# Altium schematic symbol library WCAP-FTXX.SchLib: 109 symbols (part 2 of 3)
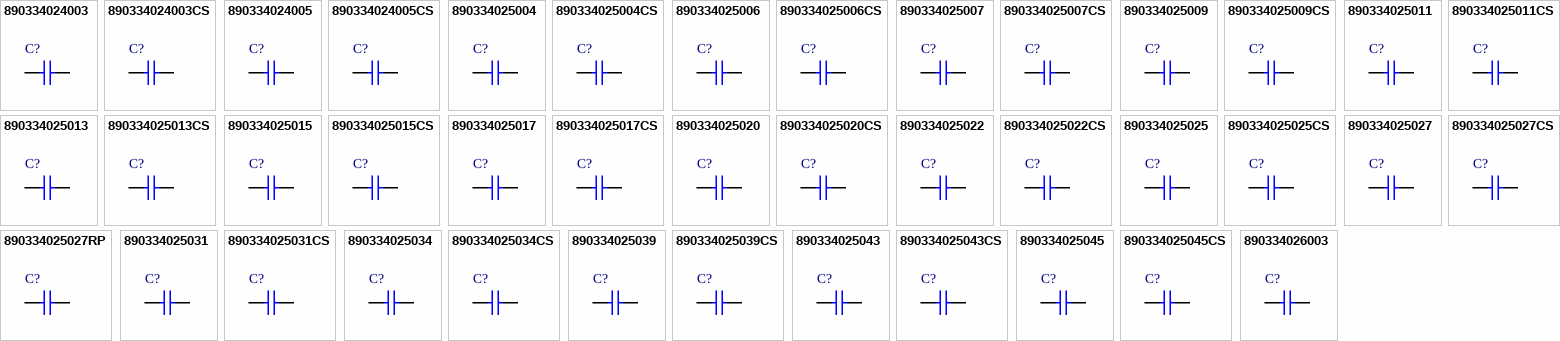
[diagram p3: symbols 890334024003 to 890334026003]

## 890334025011CS
designator C?, comment 56nF  (value not drawn)
WCAP-FTXX Film Capacitor, THT, 18mm x 5mm x 11mm, 56nF, 310V; Manufacturer Part Number: 890334025011CS; Manufacturer: Wurth Elektronik; Dissipation Factor @1kHz: 0.1%; Insulation Resistance: 30GΩ; Rate of Voltage Rise: 250V/µs; Safety Class: X2; Category: Film Capacitors; Match Code: WCAP-FTXX; ComponentLink1Description: Website Link; ComponentLink1URL: https://www.we-online.com/redexpert/article/890334025011CS?ad; ComponentLink2Description: Datasheet Link; ComponentLink2URL: https://www.we-online.com/redexpert/spec/890334025011CS?ad; Mount: Through Hole; Min Operating Temperature: -40°C; Max Operating Temperature: 105°C; Packaging: Bulk; Length: 18mm; Width: 5mm; Height: 11mm; Application: Across the mains; Capacitance: 56nF; Lead Pitch: 15mm; Rated Voltage (AC): 310V
footprint WCAP-FTXX_L18W5H11
simulation model 890334025011CS_56nF
pins: 1, 2

## 890334025013
designator C?, comment 68nF  (value not drawn)
WCAP-FTXX Film Capacitor, THT, 18mm x 6mm x 12mm, 68nF, 310V; Manufacturer Part Number: 890334025013; Manufacturer: Wurth Elektronik; Dissipation Factor @1kHz: 0.1%; Insulation Resistance: 30GΩ; Rate of Voltage Rise: 270V/µs; Safety Class: X2; Category: Film Capacitors; Match Code: WCAP-FTXX; ComponentLink1Description: Website Link; ComponentLink1URL: https://www.we-online.com/redexpert/article/890334025013?ad; ComponentLink2Description: Datasheet Link; ComponentLink2URL: https://www.we-online.com/redexpert/spec/890334025013?ad; Mount: Through Hole; Min Operating Temperature: -40°C; Max Operating Temperature: 105°C; Packaging: Bulk; Length: 18mm; Width: 6mm; Height: 12mm; Application: Across the mains; Capacitance: 68nF; Lead Pitch: 15mm; Rated Voltage (AC): 310V
footprint WCAP-FTXX_L18W6H12
simulation model 890334025013_68nF
pins: 1, 2

## 890334025013CS
designator C?, comment 68nF  (value not drawn)
WCAP-FTXX Film Capacitor, THT, 18mm x 6mm x 12mm, 68nF, 310V; Manufacturer Part Number: 890334025013CS; Manufacturer: Wurth Elektronik; Dissipation Factor @1kHz: 0.1%; Insulation Resistance: 30GΩ; Rate of Voltage Rise: 270V/µs; Safety Class: X2; Category: Film Capacitors; Match Code: WCAP-FTXX; ComponentLink1Description: Website Link; ComponentLink1URL: https://www.we-online.com/redexpert/article/890334025013CS?ad; ComponentLink2Description: Datasheet Link; ComponentLink2URL: https://www.we-online.com/redexpert/spec/890334025013CS?ad; Mount: Through Hole; Min Operating Temperature: -40°C; Max Operating Temperature: 105°C; Packaging: Bulk; Length: 18mm; Width: 6mm; Height: 12mm; Application: Across the mains; Capacitance: 68nF; Lead Pitch: 15mm; Rated Voltage (AC): 310V
footprint WCAP-FTXX_L18W6H12
simulation model 890334025013CS_68nF
pins: 1, 2

## 890334025015
designator C?, comment 82nF  (value not drawn)
WCAP-FTXX Film Capacitor, THT, 18mm x 6mm x 12mm, 82nF, 310V; Manufacturer Part Number: 890334025015; Manufacturer: Wurth Elektronik; Dissipation Factor @1kHz: 0.1%; Insulation Resistance: 30GΩ; Rate of Voltage Rise: 290V/µs; Safety Class: X2; Category: Film Capacitors; Match Code: WCAP-FTXX; ComponentLink1Description: Website Link; ComponentLink1URL: https://www.we-online.com/redexpert/article/890334025015?ad; ComponentLink2Description: Datasheet Link; ComponentLink2URL: https://www.we-online.com/redexpert/spec/890334025015?ad; Mount: Through Hole; Min Operating Temperature: -40°C; Max Operating Temperature: 105°C; Packaging: Bulk; Length: 18mm; Width: 6mm; Height: 12mm; Application: Across the mains; Capacitance: 82nF; Lead Pitch: 15mm; Rated Voltage (AC): 310V
footprint WCAP-FTXX_L18W6H12
simulation model 890334025015_82nF
pins: 1, 2

## 890334025015CS
designator C?, comment 82nF  (value not drawn)
WCAP-FTXX Film Capacitor, THT, 18mm x 6mm x 12mm, 82nF, 310V; Manufacturer Part Number: 890334025015CS; Manufacturer: Wurth Elektronik; Dissipation Factor @1kHz: 0.1%; Insulation Resistance: 30GΩ; Rate of Voltage Rise: 290V/µs; Safety Class: X2; Category: Film Capacitors; Match Code: WCAP-FTXX; ComponentLink1Description: Website Link; ComponentLink1URL: https://www.we-online.com/redexpert/article/890334025015CS?ad; ComponentLink2Description: Datasheet Link; ComponentLink2URL: https://www.we-online.com/redexpert/spec/890334025015CS?ad; Mount: Through Hole; Min Operating Temperature: -40°C; Max Operating Temperature: 105°C; Packaging: Bulk; Length: 18mm; Width: 6mm; Height: 12mm; Application: Across the mains; Capacitance: 82nF; Lead Pitch: 15mm; Rated Voltage (AC): 310V
footprint WCAP-FTXX_L18W6H12
simulation model 890334025015CS_82nF
pins: 1, 2

## 890334025017
designator C?, comment 100nF  (value not drawn)
WCAP-FTXX Film Capacitor, THT, 18mm x 6mm x 12mm, 100nF, 310V; Manufacturer Part Number: 890334025017; Manufacturer: Wurth Elektronik; Dissipation Factor @1kHz: 0.1%; Insulation Resistance: 30GΩ; Rate of Voltage Rise: 300V/µs; Safety Class: X2; Category: Film Capacitors; Match Code: WCAP-FTXX; ComponentLink1Description: Website Link; ComponentLink1URL: https://www.we-online.com/redexpert/article/890334025017?ad; ComponentLink2Description: Datasheet Link; ComponentLink2URL: https://www.we-online.com/redexpert/spec/890334025017?ad; Mount: Through Hole; Min Operating Temperature: -40°C; Max Operating Temperature: 105°C; Packaging: Bulk; Length: 18mm; Width: 6mm; Height: 12mm; Application: Across the mains; Capacitance: 100nF; Lead Pitch: 15mm; Rated Voltage (AC): 310V
footprint WCAP-FTXX_L18W6H12
simulation model 890334025017_100nF
pins: 1, 2

## 890334025017CS
designator C?, comment 100nF  (value not drawn)
WCAP-FTXX Film Capacitor, THT, 18mm x 6mm x 12mm, 100nF, 310V; Manufacturer Part Number: 890334025017CS; Manufacturer: Wurth Elektronik; Dissipation Factor @1kHz: 0.1%; Insulation Resistance: 30GΩ; Rate of Voltage Rise: 300V/µs; Safety Class: X2; Category: Film Capacitors; Match Code: WCAP-FTXX; ComponentLink1Description: Website Link; ComponentLink1URL: https://www.we-online.com/redexpert/article/890334025017CS?ad; ComponentLink2Description: Datasheet Link; ComponentLink2URL: https://www.we-online.com/redexpert/spec/890334025017CS?ad; Mount: Through Hole; Min Operating Temperature: -40°C; Max Operating Temperature: 105°C; Packaging: Bulk; Length: 18mm; Width: 6mm; Height: 12mm; Application: Across the mains; Capacitance: 100nF; Lead Pitch: 15mm; Rated Voltage (AC): 310V
footprint WCAP-FTXX_L18W6H12
simulation model 890334025017CS_100nF
pins: 1, 2

## 890334025020
designator C?, comment 120nF  (value not drawn)
WCAP-FTXX Film Capacitor, THT, 18mm x 7.5mm x 13.5mm, 120nF, 310V; Manufacturer Part Number: 890334025020; Manufacturer: Wurth Elektronik; Dissipation Factor @1kHz: 0.1%; Insulation Resistance: 30GΩ; Rate of Voltage Rise: 300V/µs; Safety Class: X2; Category: Film Capacitors; Match Code: WCAP-FTXX; ComponentLink1Description: Website Link; ComponentLink1URL: https://www.we-online.com/redexpert/article/890334025020?ad; ComponentLink2Description: Datasheet Link; ComponentLink2URL: https://www.we-online.com/redexpert/spec/890334025020?ad; Mount: Through Hole; Min Operating Temperature: -40°C; Max Operating Temperature: 105°C; Packaging: Bulk; Length: 18mm; Width: 7.5mm; Height: 13.5mm; Application: Across the mains; Capacitance: 120nF; Lead Pitch: 15mm; Rated Voltage (AC): 310V
footprint WCAP-FTXX_L18W7.5H13.5
simulation model 890334025020_120nF
pins: 1, 2

## 890334025020CS
designator C?, comment 120nF  (value not drawn)
WCAP-FTXX Film Capacitor, THT, 18mm x 7.5mm x 13.5mm, 120nF, 310V; Manufacturer Part Number: 890334025020CS; Manufacturer: Wurth Elektronik; Dissipation Factor @1kHz: 0.1%; Insulation Resistance: 30GΩ; Rate of Voltage Rise: 300V/µs; Safety Class: X2; Category: Film Capacitors; Match Code: WCAP-FTXX; ComponentLink1Description: Website Link; ComponentLink1URL: https://www.we-online.com/redexpert/article/890334025020CS?ad; ComponentLink2Description: Datasheet Link; ComponentLink2URL: https://www.we-online.com/redexpert/spec/890334025020CS?ad; Mount: Through Hole; Min Operating Temperature: -40°C; Max Operating Temperature: 105°C; Packaging: Bulk; Length: 18mm; Width: 7.5mm; Height: 13.5mm; Application: Across the mains; Capacitance: 120nF; Lead Pitch: 15mm; Rated Voltage (AC): 310V
footprint WCAP-FTXX_L18W7.5H13.5
simulation model 890334025020CS_120nF
pins: 1, 2

## 890334025022
designator C?, comment 150nF  (value not drawn)
WCAP-FTXX Film Capacitor, THT, 18mm x 6mm x 12mm, 150nF, 310V; Manufacturer Part Number: 890334025022; Manufacturer: Wurth Elektronik; Dissipation Factor @1kHz: 0.1%; Insulation Resistance: 30GΩ; Rate of Voltage Rise: 210V/µs; Safety Class: X2; Category: Film Capacitors; Match Code: WCAP-FTXX; ComponentLink1Description: Website Link; ComponentLink1URL: https://www.we-online.com/redexpert/article/890334025022?ad; ComponentLink2Description: Datasheet Link; ComponentLink2URL: https://www.we-online.com/redexpert/spec/890334025022?ad; Mount: Through Hole; Min Operating Temperature: -40°C; Max Operating Temperature: 105°C; Packaging: Bulk; Length: 18mm; Width: 6mm; Height: 12mm; Application: Across the mains; Capacitance: 150nF; Lead Pitch: 15mm; Rated Voltage (AC): 310V
footprint WCAP-FTXX_L18W6H12
simulation model 890334025022_150nF
pins: 1, 2

## 890334025022CS
designator C?, comment 150nF  (value not drawn)
WCAP-FTXX Film Capacitor, THT, 18mm x 6mm x 12mm, 150nF, 310V; Manufacturer Part Number: 890334025022CS; Manufacturer: Wurth Elektronik; Dissipation Factor @1kHz: 0.1%; Insulation Resistance: 30GΩ; Rate of Voltage Rise: 210V/µs; Safety Class: X2; Category: Film Capacitors; Match Code: WCAP-FTXX; ComponentLink1Description: Website Link; ComponentLink1URL: https://www.we-online.com/redexpert/article/890334025022CS?ad; ComponentLink2Description: Datasheet Link; ComponentLink2URL: https://www.we-online.com/redexpert/spec/890334025022CS?ad; Mount: Through Hole; Min Operating Temperature: -40°C; Max Operating Temperature: 105°C; Packaging: Bulk; Length: 18mm; Width: 6mm; Height: 12mm; Application: Across the mains; Capacitance: 150nF; Lead Pitch: 15mm; Rated Voltage (AC): 310V
footprint WCAP-FTXX_L18W6H12
simulation model 890334025022CS_150nF
pins: 1, 2

## 890334025025
designator C?, comment 180nF  (value not drawn)
WCAP-FTXX Film Capacitor, THT, 18mm x 6mm x 12mm, 180nF, 310V; Manufacturer Part Number: 890334025025; Manufacturer: Wurth Elektronik; Dissipation Factor @1kHz: 0.1%; Insulation Resistance: 30GΩ; Rate of Voltage Rise: 230V/µs; Safety Class: X2; Category: Film Capacitors; Match Code: WCAP-FTXX; ComponentLink1Description: Website Link; ComponentLink1URL: https://www.we-online.com/redexpert/article/890334025025?ad; ComponentLink2Description: Datasheet Link; ComponentLink2URL: https://www.we-online.com/redexpert/spec/890334025025?ad; Mount: Through Hole; Min Operating Temperature: -40°C; Max Operating Temperature: 105°C; Packaging: Bulk; Length: 18mm; Width: 6mm; Height: 12mm; Application: Across the mains; Capacitance: 180nF; Lead Pitch: 15mm; Rated Voltage (AC): 310V
footprint WCAP-FTXX_L18W6H12
simulation model 890334025025_180nF
pins: 1, 2

## 890334025025CS
designator C?, comment 180nF  (value not drawn)
WCAP-FTXX Film Capacitor, THT, 18mm x 6mm x 12mm, 180nF, 310V; Manufacturer Part Number: 890334025025CS; Manufacturer: Wurth Elektronik; Dissipation Factor @1kHz: 0.1%; Insulation Resistance: 30GΩ; Rate of Voltage Rise: 230V/µs; Safety Class: X2; Category: Film Capacitors; Match Code: WCAP-FTXX; ComponentLink1Description: Website Link; ComponentLink1URL: https://www.we-online.com/redexpert/article/890334025025CS?ad; ComponentLink2Description: Datasheet Link; ComponentLink2URL: https://www.we-online.com/redexpert/spec/890334025025CS?ad; Mount: Through Hole; Min Operating Temperature: -40°C; Max Operating Temperature: 105°C; Packaging: Bulk; Length: 18mm; Width: 6mm; Height: 12mm; Application: Across the mains; Capacitance: 180nF; Lead Pitch: 15mm; Rated Voltage (AC): 310V
footprint WCAP-FTXX_L18W6H12
simulation model 890334025025CS_180nF
pins: 1, 2

## 890334025027
designator C?, comment 220nF  (value not drawn)
WCAP-FTXX Film Capacitor, THT, 18mm x 6mm x 11.5mm, 220nF, 310V; Manufacturer Part Number: 890334025027; Manufacturer: Wurth Elektronik; Dissipation Factor @1kHz: 0.1%; Insulation Resistance: 30GΩ; Rate of Voltage Rise: 180V/µs; Safety Class: X2; Category: Film Capacitors; Match Code: WCAP-FTXX; ComponentLink1Description: Website Link; ComponentLink1URL: https://www.we-online.com/redexpert/article/890334025027?ad; ComponentLink2Description: Datasheet Link; ComponentLink2URL: https://www.we-online.com/redexpert/spec/890334025027?ad; Mount: Through Hole; Min Operating Temperature: -40°C; Max Operating Temperature: 105°C; Packaging: Bulk; Length: 18mm; Width: 6mm; Height: 11.5mm; Application: Across the mains; Capacitance: 220nF; Lead Pitch: 15mm; Rated Voltage (AC): 310V
footprint WCAP-FTXX_L18W6H11.5
simulation model 890334025027_220nF
pins: 1, 2

## 890334025027CS
designator C?, comment 220nF  (value not drawn)
WCAP-FTXX Film Capacitor, THT, 18mm x 6mm x 11.5mm, 220nF, 310V; Manufacturer Part Number: 890334025027CS; Manufacturer: Wurth Elektronik; Dissipation Factor @1kHz: 0.1%; Insulation Resistance: 30GΩ; Rate of Voltage Rise: 180V/µs; Safety Class: X2; Category: Film Capacitors; Match Code: WCAP-FTXX; ComponentLink1Description: Website Link; ComponentLink1URL: https://www.we-online.com/redexpert/article/890334025027CS?ad; ComponentLink2Description: Datasheet Link; ComponentLink2URL: https://www.we-online.com/redexpert/spec/890334025027CS?ad; Mount: Through Hole; Min Operating Temperature: -40°C; Max Operating Temperature: 105°C; Packaging: Bulk; Length: 18mm; Width: 6mm; Height: 11.5mm; Application: Across the mains; Capacitance: 220nF; Lead Pitch: 15mm; Rated Voltage (AC): 310V
footprint WCAP-FTXX_L18W6H11.5
simulation model 890334025027CS_220nF
pins: 1, 2

## 890334025027RP
designator C?, comment 220nF  (value not drawn)
WCAP-FTXX Film Capacitor, THT, 18mm x 6mm x 11.5mm, 220nF, 310V; Manufacturer Part Number: 890334025027RP; Manufacturer: Wurth Elektronik; Dissipation Factor @1kHz: 0.1%; Insulation Resistance: 30GΩ; Rate of Voltage Rise: 180V/µs; Safety Class: X2; Category: Film Capacitors; Match Code: WCAP-FTXX; ComponentLink1Description: Website Link; ComponentLink1URL: https://www.we-online.com/redexpert/article/890334025027RP?ad; ComponentLink2Description: Datasheet Link; ComponentLink2URL: https://www.we-online.com/redexpert/spec/890334025027RP?ad; Mount: Through Hole; Min Operating Temperature: -40°C; Max Operating Temperature: 105°C; Packaging: Tape and Reel; Length: 18mm; Width: 6mm; Height: 11.5mm; Application: Across the mains; Capacitance: 220nF; Lead Pitch: 15mm; Rated Voltage (AC): 310V
footprint WCAP-FTXX_L18W6H11.5
simulation model 890334025027RP_220nF
pins: 1, 2

## 890334025031
designator C?, comment 270nF  (value not drawn)
WCAP-FTXX Film Capacitor, THT, 18mm x 7.5mm x 14.5mm, 270nF, 310V; Manufacturer Part Number: 890334025031; Manufacturer: Wurth Elektronik; Dissipation Factor @1kHz: 0.1%; Insulation Resistance: 30GΩ; Rate of Voltage Rise: 250V/µs; Safety Class: X2; Category: Film Capacitors; Match Code: WCAP-FTXX; ComponentLink1Description: Website Link; ComponentLink1URL: https://www.we-online.com/redexpert/article/890334025031?ad; ComponentLink2Description: Datasheet Link; ComponentLink2URL: https://www.we-online.com/redexpert/spec/890334025031?ad; Mount: Through Hole; Min Operating Temperature: -40°C; Max Operating Temperature: 105°C; Packaging: Bulk; Length: 18mm; Width: 7.5mm; Height: 14.5mm; Application: Across the mains; Capacitance: 270nF; Lead Pitch: 15mm; Rated Voltage (AC): 310V
footprint WCAP-FTXX_L18W7.5H14.5
simulation model 890334025031_270nF
pins: 1, 2

## 890334025031CS
designator C?, comment 270nF  (value not drawn)
WCAP-FTXX Film Capacitor, THT, 18mm x 7.5mm x 14.5mm, 270nF, 310V; Manufacturer Part Number: 890334025031CS; Manufacturer: Wurth Elektronik; Dissipation Factor @1kHz: 0.1%; Insulation Resistance: 30GΩ; Rate of Voltage Rise: 250V/µs; Safety Class: X2; Category: Film Capacitors; Match Code: WCAP-FTXX; ComponentLink1Description: Website Link; ComponentLink1URL: https://www.we-online.com/redexpert/article/890334025031CS?ad; ComponentLink2Description: Datasheet Link; ComponentLink2URL: https://www.we-online.com/redexpert/spec/890334025031CS?ad; Mount: Through Hole; Min Operating Temperature: -40°C; Max Operating Temperature: 105°C; Packaging: Bulk; Length: 18mm; Width: 7.5mm; Height: 14.5mm; Application: Across the mains; Capacitance: 270nF; Lead Pitch: 15mm; Rated Voltage (AC): 310V
footprint WCAP-FTXX_L18W7.5H14.5
simulation model 890334025031CS_270nF
pins: 1, 2

## 890334025034
designator C?, comment 330nF  (value not drawn)
WCAP-FTXX Film Capacitor, THT, 18mm x 8.5mm x 14.5mm, 330nF, 310V; Manufacturer Part Number: 890334025034; Manufacturer: Wurth Elektronik; Dissipation Factor @1kHz: 0.1%; Insulation Resistance: 30GΩ; Rate of Voltage Rise: 260V/µs; Safety Class: X2; Category: Film Capacitors; Match Code: WCAP-FTXX; ComponentLink1Description: Website Link; ComponentLink1URL: https://www.we-online.com/redexpert/article/890334025034?ad; ComponentLink2Description: Datasheet Link; ComponentLink2URL: https://www.we-online.com/redexpert/spec/890334025034?ad; Mount: Through Hole; Min Operating Temperature: -40°C; Max Operating Temperature: 105°C; Packaging: Bulk; Length: 18mm; Width: 8.5mm; Height: 14.5mm; Application: Across the mains; Capacitance: 330nF; Lead Pitch: 15mm; Rated Voltage (AC): 310V
footprint WCAP-FTXX_L18W8.5H14.5
simulation model 890334025034_330nF
pins: 1, 2

## 890334025034CS
designator C?, comment 330nF  (value not drawn)
WCAP-FTXX Film Capacitor, THT, 18mm x 8.5mm x 14.5mm, 330nF, 310V; Manufacturer Part Number: 890334025034CS; Manufacturer: Wurth Elektronik; Dissipation Factor @1kHz: 0.1%; Insulation Resistance: 30GΩ; Rate of Voltage Rise: 260V/µs; Safety Class: X2; Category: Film Capacitors; Match Code: WCAP-FTXX; ComponentLink1Description: Website Link; ComponentLink1URL: https://www.we-online.com/redexpert/article/890334025034CS?ad; ComponentLink2Description: Datasheet Link; ComponentLink2URL: https://www.we-online.com/redexpert/spec/890334025034CS?ad; Mount: Through Hole; Min Operating Temperature: -40°C; Max Operating Temperature: 105°C; Packaging: Bulk; Length: 18mm; Width: 8.5mm; Height: 14.5mm; Application: Across the mains; Capacitance: 330nF; Lead Pitch: 15mm; Rated Voltage (AC): 310V
footprint WCAP-FTXX_L18W8.5H14.5
simulation model 890334025034CS_330nF
pins: 1, 2

## 890334025039
designator C?, comment 470nF  (value not drawn)
WCAP-FTXX Film Capacitor, THT, 18mm x 8mm x 14mm, 470nF, 310V; Manufacturer Part Number: 890334025039; Manufacturer: Wurth Elektronik; Dissipation Factor @1kHz: 0.1%; Insulation Resistance: 21.28GΩ; Rate of Voltage Rise: 220V/µs; Safety Class: X2; Category: Film Capacitors; Match Code: WCAP-FTXX; ComponentLink1Description: Website Link; ComponentLink1URL: https://www.we-online.com/redexpert/article/890334025039?ad; ComponentLink2Description: Datasheet Link; ComponentLink2URL: https://www.we-online.com/redexpert/spec/890334025039?ad; Mount: Through Hole; Min Operating Temperature: -40°C; Max Operating Temperature: 105°C; Packaging: Bulk; Length: 18mm; Width: 8mm; Height: 14mm; Application: Across the mains; Capacitance: 470nF; Lead Pitch: 15mm; Rated Voltage (AC): 310V
footprint WCAP-FTXX_L18W8H14
simulation model 890334025039_470nF
pins: 1, 2

## 890334025039CS
designator C?, comment 470nF  (value not drawn)
WCAP-FTXX Film Capacitor, THT, 18mm x 8mm x 14mm, 470nF, 310V; Manufacturer Part Number: 890334025039CS; Manufacturer: Wurth Elektronik; Dissipation Factor @1kHz: 0.1%; Insulation Resistance: 21.28GΩ; Rate of Voltage Rise: 220V/µs; Safety Class: X2; Category: Film Capacitors; Match Code: WCAP-FTXX; ComponentLink1Description: Website Link; ComponentLink1URL: https://www.we-online.com/redexpert/article/890334025039CS?ad; ComponentLink2Description: Datasheet Link; ComponentLink2URL: https://www.we-online.com/redexpert/spec/890334025039CS?ad; Mount: Through Hole; Min Operating Temperature: -40°C; Max Operating Temperature: 105°C; Packaging: Bulk; Length: 18mm; Width: 8mm; Height: 14mm; Application: Across the mains; Capacitance: 470nF; Lead Pitch: 15mm; Rated Voltage (AC): 310V
footprint WCAP-FTXX_L18W8H14
simulation model 890334025039CS_470nF
pins: 1, 2

## 890334025043
designator C?, comment 560nF  (value not drawn)
WCAP-FTXX Film Capacitor, THT, 18mm x 9mm x 15mm, 560nF, 310V; Manufacturer Part Number: 890334025043; Manufacturer: Wurth Elektronik; Dissipation Factor @1kHz: 0.1%; Insulation Resistance: 17.86GΩ; Rate of Voltage Rise: 220V/µs; Safety Class: X2; Category: Film Capacitors; Match Code: WCAP-FTXX; ComponentLink1Description: Website Link; ComponentLink1URL: https://www.we-online.com/redexpert/article/890334025043?ad; ComponentLink2Description: Datasheet Link; ComponentLink2URL: https://www.we-online.com/redexpert/spec/890334025043?ad; Mount: Through Hole; Min Operating Temperature: -40°C; Max Operating Temperature: 105°C; Packaging: Bulk; Length: 18mm; Width: 9mm; Height: 15mm; Application: Across the mains; Capacitance: 560nF; Lead Pitch: 15mm; Rated Voltage (AC): 310V
footprint WCAP-FTXX_L18W9H15
simulation model 890334025043_560nF
pins: 1, 2

## 890334025043CS
designator C?, comment 560nF  (value not drawn)
WCAP-FTXX Film Capacitor, THT, 18mm x 9mm x 15mm, 560nF, 310V; Manufacturer Part Number: 890334025043CS; Manufacturer: Wurth Elektronik; Dissipation Factor @1kHz: 0.1%; Insulation Resistance: 17.86GΩ; Rate of Voltage Rise: 220V/µs; Safety Class: X2; Category: Film Capacitors; Match Code: WCAP-FTXX; ComponentLink1Description: Website Link; ComponentLink1URL: https://www.we-online.com/redexpert/article/890334025043CS?ad; ComponentLink2Description: Datasheet Link; ComponentLink2URL: https://www.we-online.com/redexpert/spec/890334025043CS?ad; Mount: Through Hole; Min Operating Temperature: -40°C; Max Operating Temperature: 105°C; Packaging: Bulk; Length: 18mm; Width: 9mm; Height: 15mm; Application: Across the mains; Capacitance: 560nF; Lead Pitch: 15mm; Rated Voltage (AC): 310V
footprint WCAP-FTXX_L18W9H15
simulation model 890334025043CS_560nF
pins: 1, 2

## 890334025045
designator C?, comment 680nF  (value not drawn)
WCAP-FTXX Film Capacitor, THT, 18mm x 10mm x 16mm, 680nF, 310V; Manufacturer Part Number: 890334025045; Manufacturer: Wurth Elektronik; Dissipation Factor @1kHz: 0.1%; Insulation Resistance: 14.71GΩ; Rate of Voltage Rise: 230V/µs; Safety Class: X2; Category: Film Capacitors; Match Code: WCAP-FTXX; ComponentLink1Description: Website Link; ComponentLink1URL: https://www.we-online.com/redexpert/article/890334025045?ad; ComponentLink2Description: Datasheet Link; ComponentLink2URL: https://www.we-online.com/redexpert/spec/890334025045?ad; Mount: Through Hole; Min Operating Temperature: -40°C; Max Operating Temperature: 105°C; Packaging: Bulk; Length: 18mm; Width: 10mm; Height: 16mm; Application: Across the mains; Capacitance: 680nF; Lead Pitch: 15mm; Rated Voltage (AC): 310V
footprint WCAP-FTXX_L18W10H16
simulation model 890334025045_680nF
pins: 1, 2

## 890334025045CS
designator C?, comment 680nF  (value not drawn)
WCAP-FTXX Film Capacitor, THT, 18mm x 10mm x 16mm, 680nF, 310V; Manufacturer Part Number: 890334025045CS; Manufacturer: Wurth Elektronik; Dissipation Factor @1kHz: 0.1%; Insulation Resistance: 14.71GΩ; Rate of Voltage Rise: 230V/µs; Safety Class: X2; Category: Film Capacitors; Match Code: WCAP-FTXX; ComponentLink1Description: Website Link; ComponentLink1URL: https://www.we-online.com/redexpert/article/890334025045CS?ad; ComponentLink2Description: Datasheet Link; ComponentLink2URL: https://www.we-online.com/redexpert/spec/890334025045CS?ad; Mount: Through Hole; Min Operating Temperature: -40°C; Max Operating Temperature: 105°C; Packaging: Bulk; Length: 18mm; Width: 10mm; Height: 16mm; Application: Across the mains; Capacitance: 680nF; Lead Pitch: 15mm; Rated Voltage (AC): 310V
footprint WCAP-FTXX_L18W10H16
simulation model 890334025045CS_680nF
pins: 1, 2

## 890334026003
designator C?, comment 220nF  (value not drawn)
WCAP-FTXX Film Capacitor, THT, 26mm x 6mm x 15mm, 220nF, 310V; Manufacturer Part Number: 890334026003; Manufacturer: Wurth Elektronik; Dissipation Factor @1kHz: 0.1%; Insulation Resistance: 30GΩ; Rate of Voltage Rise: 160V/µs; Safety Class: X2; Category: Film Capacitors; Match Code: WCAP-FTXX; ComponentLink1Description: Website Link; ComponentLink1URL: https://www.we-online.com/redexpert/article/890334026003?ad; ComponentLink2Description: Datasheet Link; ComponentLink2URL: https://www.we-online.com/redexpert/spec/890334026003?ad; Mount: Through Hole; Min Operating Temperature: -40°C; Max Operating Temperature: 105°C; Packaging: Bulk; Length: 26mm; Width: 6mm; Height: 15mm; Application: Across the mains; Capacitance: 220nF; Lead Pitch: 22.5mm; Rated Voltage (AC): 310V
footprint WCAP-FTXX_L26W6H15
simulation model 890334026003_220nF
pins: 1, 2

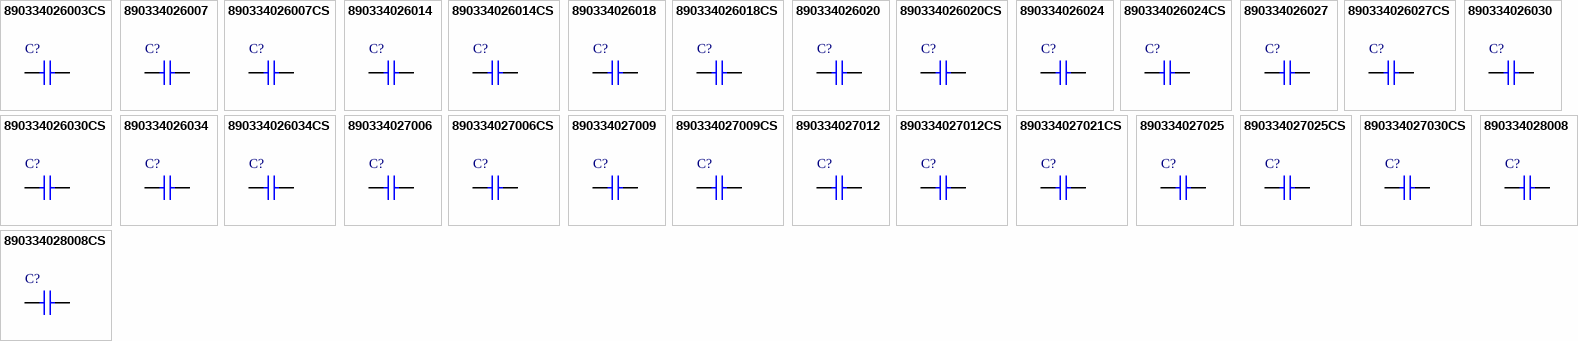
[diagram p2: symbols 890334026003CS to 890334028008CS]

## 890334026003CS
designator C?, comment 220nF  (value not drawn)
WCAP-FTXX Film Capacitor, THT, 26mm x 6mm x 15mm, 220nF, 310V; Manufacturer Part Number: 890334026003CS; Manufacturer: Wurth Elektronik; Dissipation Factor @1kHz: 0.1%; Insulation Resistance: 30GΩ; Rate of Voltage Rise: 160V/µs; Safety Class: X2; Category: Film Capacitors; Match Code: WCAP-FTXX; ComponentLink1Description: Website Link; ComponentLink1URL: https://www.we-online.com/redexpert/article/890334026003CS?ad; ComponentLink2Description: Datasheet Link; ComponentLink2URL: https://www.we-online.com/redexpert/spec/890334026003CS?ad; Mount: Through Hole; Min Operating Temperature: -40°C; Max Operating Temperature: 105°C; Packaging: Bulk; Length: 26mm; Width: 6mm; Height: 15mm; Application: Across the mains; Capacitance: 220nF; Lead Pitch: 22.5mm; Rated Voltage (AC): 310V
footprint WCAP-FTXX_L26W6H15
simulation model 890334026003CS_220nF
pins: 1, 2

## 890334026007
designator C?, comment 330nF  (value not drawn)
WCAP-FTXX Film Capacitor, THT, 26mm x 6mm x 12mm, 330nF, 310V; Manufacturer Part Number: 890334026007; Manufacturer: Wurth Elektronik; Dissipation Factor @1kHz: 0.1%; Insulation Resistance: 30GΩ; Rate of Voltage Rise: 140V/µs; Safety Class: X2; Category: Film Capacitors; Match Code: WCAP-FTXX; ComponentLink1Description: Website Link; ComponentLink1URL: https://www.we-online.com/redexpert/article/890334026007?ad; ComponentLink2Description: Datasheet Link; ComponentLink2URL: https://www.we-online.com/redexpert/spec/890334026007?ad; Mount: Through Hole; Min Operating Temperature: -40°C; Max Operating Temperature: 105°C; Packaging: Bulk; Length: 26mm; Width: 6mm; Height: 12mm; Application: Across the mains; Capacitance: 330nF; Lead Pitch: 22.5mm; Rated Voltage (AC): 310V
footprint WCAP-FTXX_L26W6H12
simulation model 890334026007_330nF
pins: 1, 2

## 890334026007CS
designator C?, comment 330nF  (value not drawn)
WCAP-FTXX Film Capacitor, THT, 26mm x 6mm x 12mm, 330nF, 310V; Manufacturer Part Number: 890334026007CS; Manufacturer: Wurth Elektronik; Dissipation Factor @1kHz: 0.1%; Insulation Resistance: 30GΩ; Rate of Voltage Rise: 140V/µs; Safety Class: X2; Category: Film Capacitors; Match Code: WCAP-FTXX; ComponentLink1Description: Website Link; ComponentLink1URL: https://www.we-online.com/redexpert/article/890334026007CS?ad; ComponentLink2Description: Datasheet Link; ComponentLink2URL: https://www.we-online.com/redexpert/spec/890334026007CS?ad; Mount: Through Hole; Min Operating Temperature: -40°C; Max Operating Temperature: 105°C; Packaging: Bulk; Length: 26mm; Width: 6mm; Height: 12mm; Application: Across the mains; Capacitance: 330nF; Lead Pitch: 22.5mm; Rated Voltage (AC): 310V
footprint WCAP-FTXX_L26W6H12
simulation model 890334026007CS_330nF
pins: 1, 2

## 890334026014
designator C?, comment 470nF  (value not drawn)
WCAP-FTXX Film Capacitor, THT, 26mm x 6.5mm x 14.5mm, 470nF, 310V; Manufacturer Part Number: 890334026014; Manufacturer: Wurth Elektronik; Dissipation Factor @1kHz: 0.1%; Insulation Resistance: 21.28GΩ; Rate of Voltage Rise: 150V/µs; Safety Class: X2; Category: Film Capacitors; Match Code: WCAP-FTXX; ComponentLink1Description: Website Link; ComponentLink1URL: https://www.we-online.com/redexpert/article/890334026014?ad; ComponentLink2Description: Datasheet Link; ComponentLink2URL: https://www.we-online.com/redexpert/spec/890334026014?ad; Mount: Through Hole; Min Operating Temperature: -40°C; Max Operating Temperature: 105°C; Packaging: Bulk; Length: 26mm; Width: 6.5mm; Height: 14.5mm; Application: Across the mains; Capacitance: 470nF; Lead Pitch: 22.5mm; Rated Voltage (AC): 310V
footprint WCAP-FTXX_L26W6.5H14.5
simulation model 890334026014_470nF
pins: 1, 2

## 890334026014CS
designator C?, comment 470nF  (value not drawn)
WCAP-FTXX Film Capacitor, THT, 26mm x 6.5mm x 14.5mm, 470nF, 310V; Manufacturer Part Number: 890334026014CS; Manufacturer: Wurth Elektronik; Dissipation Factor @1kHz: 0.1%; Insulation Resistance: 21.28GΩ; Rate of Voltage Rise: 150V/µs; Safety Class: X2; Category: Film Capacitors; Match Code: WCAP-FTXX; ComponentLink1Description: Website Link; ComponentLink1URL: https://www.we-online.com/redexpert/article/890334026014CS?ad; ComponentLink2Description: Datasheet Link; ComponentLink2URL: https://www.we-online.com/redexpert/spec/890334026014CS?ad; Mount: Through Hole; Min Operating Temperature: -40°C; Max Operating Temperature: 105°C; Packaging: Bulk; Length: 26mm; Width: 6.5mm; Height: 14.5mm; Application: Across the mains; Capacitance: 470nF; Lead Pitch: 22.5mm; Rated Voltage (AC): 310V
footprint WCAP-FTXX_L26W6.5H14.5
simulation model 890334026014CS_470nF
pins: 1, 2

## 890334026018
designator C?, comment 560nF  (value not drawn)
WCAP-FTXX Film Capacitor, THT, 26mm x 7.5mm x 16.5mm, 560nF, 310V; Manufacturer Part Number: 890334026018; Manufacturer: Wurth Elektronik; Dissipation Factor @1kHz: 0.1%; Insulation Resistance: 17.86GΩ; Rate of Voltage Rise: 160V/µs; Safety Class: X2; Category: Film Capacitors; Match Code: WCAP-FTXX; ComponentLink1Description: Website Link; ComponentLink1URL: https://www.we-online.com/redexpert/article/890334026018?ad; ComponentLink2Description: Datasheet Link; ComponentLink2URL: https://www.we-online.com/redexpert/spec/890334026018?ad; Mount: Through Hole; Min Operating Temperature: -40°C; Max Operating Temperature: 105°C; Packaging: Bulk; Length: 26mm; Width: 7.5mm; Height: 16.5mm; Application: Across the mains; Capacitance: 560nF; Lead Pitch: 22.5mm; Rated Voltage (AC): 310V
footprint WCAP-FTXX_L26W7.5H16.5
simulation model 890334026018_560nF
pins: 1, 2

## 890334026018CS
designator C?, comment 560nF  (value not drawn)
WCAP-FTXX Film Capacitor, THT, 26mm x 7.5mm x 16.5mm, 560nF, 310V; Manufacturer Part Number: 890334026018CS; Manufacturer: Wurth Elektronik; Dissipation Factor @1kHz: 0.1%; Insulation Resistance: 17.86GΩ; Rate of Voltage Rise: 160V/µs; Safety Class: X2; Category: Film Capacitors; Match Code: WCAP-FTXX; ComponentLink1Description: Website Link; ComponentLink1URL: https://www.we-online.com/redexpert/article/890334026018CS?ad; ComponentLink2Description: Datasheet Link; ComponentLink2URL: https://www.we-online.com/redexpert/spec/890334026018CS?ad; Mount: Through Hole; Min Operating Temperature: -40°C; Max Operating Temperature: 105°C; Packaging: Bulk; Length: 26mm; Width: 7.5mm; Height: 16.5mm; Application: Across the mains; Capacitance: 560nF; Lead Pitch: 22.5mm; Rated Voltage (AC): 310V
footprint WCAP-FTXX_L26W7.5H16.5
simulation model 890334026018CS_560nF
pins: 1, 2

## 890334026020
designator C?, comment 680nF  (value not drawn)
WCAP-FTXX Film Capacitor, THT, 26mm x 7.5mm x 15mm, 680nF, 310V; Manufacturer Part Number: 890334026020; Manufacturer: Wurth Elektronik; Dissipation Factor @1kHz: 0.1%; Insulation Resistance: 14.71GΩ; Rate of Voltage Rise: 130V/µs; Safety Class: X2; Category: Film Capacitors; Match Code: WCAP-FTXX; ComponentLink1Description: Website Link; ComponentLink1URL: https://www.we-online.com/redexpert/article/890334026020?ad; ComponentLink2Description: Datasheet Link; ComponentLink2URL: https://www.we-online.com/redexpert/spec/890334026020?ad; Mount: Through Hole; Min Operating Temperature: -40°C; Max Operating Temperature: 105°C; Packaging: Bulk; Length: 26mm; Width: 7.5mm; Height: 15mm; Application: Across the mains; Capacitance: 680nF; Lead Pitch: 22.5mm; Rated Voltage (AC): 310V
footprint WCAP-FTXX_L26W7.5H15
simulation model 890334026020_680nF
pins: 1, 2

## 890334026020CS
designator C?, comment 680nF  (value not drawn)
WCAP-FTXX Film Capacitor, THT, 26mm x 7.5mm x 15mm, 680nF, 310V; Manufacturer Part Number: 890334026020CS; Manufacturer: Wurth Elektronik; Dissipation Factor @1kHz: 0.1%; Insulation Resistance: 14.71GΩ; Rate of Voltage Rise: 130V/µs; Safety Class: X2; Category: Film Capacitors; Match Code: WCAP-FTXX; ComponentLink1Description: Website Link; ComponentLink1URL: https://www.we-online.com/redexpert/article/890334026020CS?ad; ComponentLink2Description: Datasheet Link; ComponentLink2URL: https://www.we-online.com/redexpert/spec/890334026020CS?ad; Mount: Through Hole; Min Operating Temperature: -40°C; Max Operating Temperature: 105°C; Packaging: Bulk; Length: 26mm; Width: 7.5mm; Height: 15mm; Application: Across the mains; Capacitance: 680nF; Lead Pitch: 22.5mm; Rated Voltage (AC): 310V
footprint WCAP-FTXX_L26W7.5H15
simulation model 890334026020CS_680nF
pins: 1, 2

## 890334026024
designator C?, comment 820nF  (value not drawn)
WCAP-FTXX Film Capacitor, THT, 26mm x 9mm x 18mm, 820nF, 310V; Manufacturer Part Number: 890334026024; Manufacturer: Wurth Elektronik; Dissipation Factor @1kHz: 0.1%; Insulation Resistance: 12.2GΩ; Rate of Voltage Rise: 160V/µs; Safety Class: X2; Category: Film Capacitors; Match Code: WCAP-FTXX; ComponentLink1Description: Website Link; ComponentLink1URL: https://www.we-online.com/redexpert/article/890334026024?ad; ComponentLink2Description: Datasheet Link; ComponentLink2URL: https://www.we-online.com/redexpert/spec/890334026024?ad; Mount: Through Hole; Min Operating Temperature: -40°C; Max Operating Temperature: 105°C; Packaging: Bulk; Length: 26mm; Width: 9mm; Height: 18mm; Application: Across the mains; Capacitance: 820nF; Lead Pitch: 22.5mm; Rated Voltage (AC): 310V
footprint WCAP-FTXX_L26W9H18
simulation model 890334026024_820nF
pins: 1, 2

## 890334026024CS
designator C?, comment 820nF  (value not drawn)
WCAP-FTXX Film Capacitor, THT, 26mm x 9mm x 18mm, 820nF, 310V; Manufacturer Part Number: 890334026024CS; Manufacturer: Wurth Elektronik; Dissipation Factor @1kHz: 0.1%; Insulation Resistance: 12.2GΩ; Rate of Voltage Rise: 160V/µs; Safety Class: X2; Category: Film Capacitors; Match Code: WCAP-FTXX; ComponentLink1Description: Website Link; ComponentLink1URL: https://www.we-online.com/redexpert/article/890334026024CS?ad; ComponentLink2Description: Datasheet Link; ComponentLink2URL: https://www.we-online.com/redexpert/spec/890334026024CS?ad; Mount: Through Hole; Min Operating Temperature: -40°C; Max Operating Temperature: 105°C; Packaging: Bulk; Length: 26mm; Width: 9mm; Height: 18mm; Application: Across the mains; Capacitance: 820nF; Lead Pitch: 22.5mm; Rated Voltage (AC): 310V
footprint WCAP-FTXX_L26W9H18
simulation model 890334026024CS_820nF
pins: 1, 2

## 890334026027
designator C?, comment 1µF  (value not drawn)
WCAP-FTXX Film Capacitor, THT, 26mm x 11mm x 20mm, 1µF, 310V; Manufacturer Part Number: 890334026027; Manufacturer: Wurth Elektronik; Dissipation Factor @1kHz: 0.1%; Insulation Resistance: 10GΩ; Rate of Voltage Rise: 170V/µs; Safety Class: X2; Category: Film Capacitors; Match Code: WCAP-FTXX; ComponentLink1Description: Website Link; ComponentLink1URL: https://www.we-online.com/redexpert/article/890334026027?ad; ComponentLink2Description: Datasheet Link; ComponentLink2URL: https://www.we-online.com/redexpert/spec/890334026027?ad; Mount: Through Hole; Min Operating Temperature: -40°C; Max Operating Temperature: 105°C; Packaging: Bulk; Length: 26mm; Width: 11mm; Height: 20mm; Application: Across the mains; Capacitance: 1µF; Lead Pitch: 22.5mm; Rated Voltage (AC): 310V
footprint WCAP-FTXX_L26W11H20
simulation model 890334026027_1uF
pins: 1, 2

## 890334026027CS
designator C?, comment 1µF  (value not drawn)
WCAP-FTXX Film Capacitor, THT, 26mm x 11mm x 20mm, 1µF, 310V; Manufacturer Part Number: 890334026027CS; Manufacturer: Wurth Elektronik; Dissipation Factor @1kHz: 0.1%; Insulation Resistance: 10GΩ; Rate of Voltage Rise: 170V/µs; Safety Class: X2; Category: Film Capacitors; Match Code: WCAP-FTXX; ComponentLink1Description: Website Link; ComponentLink1URL: https://www.we-online.com/redexpert/article/890334026027CS?ad; ComponentLink2Description: Datasheet Link; ComponentLink2URL: https://www.we-online.com/redexpert/spec/890334026027CS?ad; Mount: Through Hole; Min Operating Temperature: -40°C; Max Operating Temperature: 105°C; Packaging: Bulk; Length: 26mm; Width: 11mm; Height: 20mm; Application: Across the mains; Capacitance: 1µF; Lead Pitch: 22.5mm; Rated Voltage (AC): 310V
footprint WCAP-FTXX_L26W11H20
simulation model 890334026027CS_1uF
pins: 1, 2

## 890334026030
designator C?, comment 1.5µF  (value not drawn)
WCAP-FTXX Film Capacitor, THT, 26mm x 10mm x 21mm, 1.5µF, 310V; Manufacturer Part Number: 890334026030; Manufacturer: Wurth Elektronik; Dissipation Factor @1kHz: 0.1%; Insulation Resistance: 6.67GΩ; Rate of Voltage Rise: 140V/µs; Safety Class: X2; Category: Film Capacitors; Match Code: WCAP-FTXX; ComponentLink1Description: Website Link; ComponentLink1URL: https://www.we-online.com/redexpert/article/890334026030?ad; ComponentLink2Description: Datasheet Link; ComponentLink2URL: https://www.we-online.com/redexpert/spec/890334026030?ad; Mount: Through Hole; Min Operating Temperature: -40°C; Max Operating Temperature: 105°C; Packaging: Bulk; Length: 26mm; Width: 10mm; Height: 21mm; Application: Across the mains; Capacitance: 1.5µF; Lead Pitch: 22.5mm; Rated Voltage (AC): 310V
footprint WCAP-FTXX_L26W10H21
simulation model 890334026030_1.5uF
pins: 1, 2

## 890334026030CS
designator C?, comment 1.5µF  (value not drawn)
WCAP-FTXX Film Capacitor, THT, 26mm x 10mm x 21mm, 1.5µF, 310V; Manufacturer Part Number: 890334026030CS; Manufacturer: Wurth Elektronik; Dissipation Factor @1kHz: 0.1%; Insulation Resistance: 6.67GΩ; Rate of Voltage Rise: 140V/µs; Safety Class: X2; Category: Film Capacitors; Match Code: WCAP-FTXX; ComponentLink1Description: Website Link; ComponentLink1URL: https://www.we-online.com/redexpert/article/890334026030CS?ad; ComponentLink2Description: Datasheet Link; ComponentLink2URL: https://www.we-online.com/redexpert/spec/890334026030CS?ad; Mount: Through Hole; Min Operating Temperature: -40°C; Max Operating Temperature: 105°C; Packaging: Bulk; Length: 26mm; Width: 10mm; Height: 21mm; Application: Across the mains; Capacitance: 1.5µF; Lead Pitch: 22.5mm; Rated Voltage (AC): 310V
footprint WCAP-FTXX_L26W10H21
simulation model 890334026030CS_1.5uF
pins: 1, 2

## 890334026034
designator C?, comment 2.2µF  (value not drawn)
WCAP-FTXX Film Capacitor, THT, 26mm x 15mm x 25mm, 2.2µF, 310V; Manufacturer Part Number: 890334026034; Manufacturer: Wurth Elektronik; Dissipation Factor @1kHz: 0.1%; Insulation Resistance: 4.55GΩ; Rate of Voltage Rise: 170V/µs; Safety Class: X2; Category: Film Capacitors; Match Code: WCAP-FTXX; ComponentLink1Description: Website Link; ComponentLink1URL: https://www.we-online.com/redexpert/article/890334026034?ad; ComponentLink2Description: Datasheet Link; ComponentLink2URL: https://www.we-online.com/redexpert/spec/890334026034?ad; Mount: Through Hole; Min Operating Temperature: -40°C; Max Operating Temperature: 105°C; Packaging: Bulk; Length: 26mm; Width: 15mm; Height: 25mm; Application: Across the mains; Capacitance: 2.2µF; Lead Pitch: 22.5mm; Rated Voltage (AC): 310V
footprint WCAP-FTXX_L26W15H25
simulation model 890334026034_2.2uF
pins: 1, 2

## 890334026034CS
designator C?, comment 2.2µF  (value not drawn)
WCAP-FTXX Film Capacitor, THT, 26mm x 15mm x 25mm, 2.2µF, 310V; Manufacturer Part Number: 890334026034CS; Manufacturer: Wurth Elektronik; Dissipation Factor @1kHz: 0.1%; Insulation Resistance: 4.55GΩ; Rate of Voltage Rise: 170V/µs; Safety Class: X2; Category: Film Capacitors; Match Code: WCAP-FTXX; ComponentLink1Description: Website Link; ComponentLink1URL: https://www.we-online.com/redexpert/article/890334026034CS?ad; ComponentLink2Description: Datasheet Link; ComponentLink2URL: https://www.we-online.com/redexpert/spec/890334026034CS?ad; Mount: Through Hole; Min Operating Temperature: -40°C; Max Operating Temperature: 105°C; Packaging: Bulk; Length: 26mm; Width: 15mm; Height: 25mm; Application: Across the mains; Capacitance: 2.2µF; Lead Pitch: 22.5mm; Rated Voltage (AC): 310V
footprint WCAP-FTXX_L26W15H25
simulation model 890334026034CS_2.2uF
pins: 1, 2

## 890334027006
designator C?, comment 680nF  (value not drawn)
WCAP-FTXX Film Capacitor, THT, 31mm x 10.5mm x 20mm, 680nF, 310V; Manufacturer Part Number: 890334027006; Manufacturer: Wurth Elektronik; Dissipation Factor @1kHz: 0.1%; Insulation Resistance: 14.71GΩ; Rate of Voltage Rise: 170V/µs; Safety Class: X2; Category: Film Capacitors; Match Code: WCAP-FTXX; ComponentLink1Description: Website Link; ComponentLink1URL: https://www.we-online.com/redexpert/article/890334027006?ad; ComponentLink2Description: Datasheet Link; ComponentLink2URL: https://www.we-online.com/redexpert/spec/890334027006?ad; Mount: Through Hole; Min Operating Temperature: -40°C; Max Operating Temperature: 105°C; Packaging: Bulk; Length: 31mm; Width: 10.5mm; Height: 20mm; Application: Across the mains; Capacitance: 680nF; Lead Pitch: 27.5mm; Rated Voltage (AC): 310V
footprint WCAP-FTXX_L31W10.5H20
simulation model 890334027006_680nF
pins: 1, 2

## 890334027006CS
designator C?, comment 680nF  (value not drawn)
WCAP-FTXX Film Capacitor, THT, 31mm x 10.5mm x 20mm, 680nF, 310V; Manufacturer Part Number: 890334027006CS; Manufacturer: Wurth Elektronik; Dissipation Factor @1kHz: 0.1%; Insulation Resistance: 14.71GΩ; Rate of Voltage Rise: 170V/µs; Safety Class: X2; Category: Film Capacitors; Match Code: WCAP-FTXX; ComponentLink1Description: Website Link; ComponentLink1URL: https://www.we-online.com/redexpert/article/890334027006CS?ad; ComponentLink2Description: Datasheet Link; ComponentLink2URL: https://www.we-online.com/redexpert/spec/890334027006CS?ad; Mount: Through Hole; Min Operating Temperature: -40°C; Max Operating Temperature: 105°C; Packaging: Bulk; Length: 31mm; Width: 10.5mm; Height: 20mm; Application: Across the mains; Capacitance: 680nF; Lead Pitch: 27.5mm; Rated Voltage (AC): 310V
footprint WCAP-FTXX_L31W10.5H20
simulation model 890334027006CS_680nF
pins: 1, 2

## 890334027009
designator C?, comment 1µF  (value not drawn)
WCAP-FTXX Film Capacitor, THT, 31mm x 8mm x 17mm, 1µF, 310V; Manufacturer Part Number: 890334027009; Manufacturer: Wurth Elektronik; Dissipation Factor @1kHz: 0.1%; Insulation Resistance: 10GΩ; Rate of Voltage Rise: 100V/µs; Safety Class: X2; Category: Film Capacitors; Match Code: WCAP-FTXX; ComponentLink1Description: Website Link; ComponentLink1URL: https://www.we-online.com/redexpert/article/890334027009?ad; ComponentLink2Description: Datasheet Link; ComponentLink2URL: https://www.we-online.com/redexpert/spec/890334027009?ad; Mount: Through Hole; Min Operating Temperature: -40°C; Max Operating Temperature: 105°C; Packaging: Bulk; Length: 31mm; Width: 8mm; Height: 17mm; Application: Across the mains; Capacitance: 1µF; Lead Pitch: 27.5mm; Rated Voltage (AC): 310V
footprint WCAP-FTXX_L31W8H17
simulation model 890334027009_1uF
pins: 1, 2

## 890334027009CS
designator C?, comment 1µF  (value not drawn)
WCAP-FTXX Film Capacitor, THT, 31mm x 8mm x 17mm, 1µF, 310V; Manufacturer Part Number: 890334027009CS; Manufacturer: Wurth Elektronik; Dissipation Factor @1kHz: 0.1%; Insulation Resistance: 10GΩ; Rate of Voltage Rise: 100V/µs; Safety Class: X2; Category: Film Capacitors; Match Code: WCAP-FTXX; ComponentLink1Description: Website Link; ComponentLink1URL: https://www.we-online.com/redexpert/article/890334027009CS?ad; ComponentLink2Description: Datasheet Link; ComponentLink2URL: https://www.we-online.com/redexpert/spec/890334027009CS?ad; Mount: Through Hole; Min Operating Temperature: -40°C; Max Operating Temperature: 105°C; Packaging: Bulk; Length: 31mm; Width: 8mm; Height: 17mm; Application: Across the mains; Capacitance: 1µF; Lead Pitch: 27.5mm; Rated Voltage (AC): 310V
footprint WCAP-FTXX_L31W8H17
simulation model 890334027009CS_1uF
pins: 1, 2

## 890334027012
designator C?, comment 1.2µF  (value not drawn)
WCAP-FTXX Film Capacitor, THT, 31mm x 13mm x 22mm, 1.2µF, 310V; Manufacturer Part Number: 890334027012; Manufacturer: Wurth Elektronik; Dissipation Factor @1kHz: 0.1%; Insulation Resistance: 8.33GΩ; Rate of Voltage Rise: 130V/µs; Safety Class: X2; Category: Film Capacitors; Match Code: WCAP-FTXX; ComponentLink1Description: Website Link; ComponentLink1URL: https://www.we-online.com/redexpert/article/890334027012?ad; ComponentLink2Description: Datasheet Link; ComponentLink2URL: https://www.we-online.com/redexpert/spec/890334027012?ad; Mount: Through Hole; Min Operating Temperature: -40°C; Max Operating Temperature: 105°C; Packaging: Bulk; Length: 31mm; Width: 13mm; Height: 22mm; Application: Across the mains; Capacitance: 1.2µF; Lead Pitch: 27.5mm; Rated Voltage (AC): 310V
footprint WCAP-FTXX_L31W13H22
simulation model 890334027012_1.2uF
pins: 1, 2

## 890334027012CS
designator C?, comment 1.2µF  (value not drawn)
WCAP-FTXX Film Capacitor, THT, 31mm x 13mm x 22mm, 1.2µF, 310V; Manufacturer Part Number: 890334027012CS; Manufacturer: Wurth Elektronik; Dissipation Factor @1kHz: 0.1%; Insulation Resistance: 8.33GΩ; Rate of Voltage Rise: 130V/µs; Safety Class: X2; Category: Film Capacitors; Match Code: WCAP-FTXX; ComponentLink1Description: Website Link; ComponentLink1URL: https://www.we-online.com/redexpert/article/890334027012CS?ad; ComponentLink2Description: Datasheet Link; ComponentLink2URL: https://www.we-online.com/redexpert/spec/890334027012CS?ad; Mount: Through Hole; Min Operating Temperature: -40°C; Max Operating Temperature: 105°C; Packaging: Bulk; Length: 31mm; Width: 13mm; Height: 22mm; Application: Across the mains; Capacitance: 1.2µF; Lead Pitch: 27.5mm; Rated Voltage (AC): 310V
footprint WCAP-FTXX_L31W13H22
simulation model 890334027012CS_1.2uF
pins: 1, 2

## 890334027021CS
designator C?, comment 2.2µF  (value not drawn)
WCAP-FTXX Film Capacitor, THT, 31mm x 12.5mm x 21mm, 2.2µF, 310V; Manufacturer Part Number: 890334027021CS; Manufacturer: Wurth Elektronik; Dissipation Factor @1kHz: 0.1%; Insulation Resistance: 4.55GΩ; Rate of Voltage Rise: 110V/µs; Safety Class: X2; Category: Film Capacitors; Match Code: WCAP-FTXX; ComponentLink1Description: Website Link; ComponentLink1URL: https://www.we-online.com/redexpert/article/890334027021CS?ad; ComponentLink2Description: Datasheet Link; ComponentLink2URL: https://www.we-online.com/redexpert/spec/890334027021CS?ad; Mount: Through Hole; Min Operating Temperature: -40°C; Max Operating Temperature: 105°C; Packaging: Bulk; Length: 31mm; Width: 12.5mm; Height: 21mm; Application: Across the mains; Capacitance: 2.2µF; Lead Pitch: 27.5mm; Rated Voltage (AC): 310V
footprint WCAP-FTXX_L31W12.5H21
simulation model 890334027021CS_2.2uF
pins: 1, 2

## 890334027025
designator C?, comment 3.3µF  (value not drawn)
WCAP-FTXX Film Capacitor, THT, 31mm x 15.5mm x 29mm, 3.3µF, 310V; Manufacturer Part Number: 890334027025; Manufacturer: Wurth Elektronik; Dissipation Factor @1kHz: 0.1%; Insulation Resistance: 3.03GΩ; Rate of Voltage Rise: 130V/µs; Safety Class: X2; Category: Film Capacitors; Match Code: WCAP-FTXX; ComponentLink1Description: Website Link; ComponentLink1URL: https://www.we-online.com/redexpert/article/890334027025?ad; ComponentLink2Description: Datasheet Link; ComponentLink2URL: https://www.we-online.com/redexpert/spec/890334027025?ad; Mount: Through Hole; Min Operating Temperature: -40°C; Max Operating Temperature: 105°C; Packaging: Bulk; Length: 31mm; Width: 15.5mm; Height: 29mm; Application: Across the mains; Capacitance: 3.3µF; Lead Pitch: 27.5mm; Rated Voltage (AC): 310V
footprint WCAP-FTXX_L31W15.5H29
simulation model 890334027025_3.3uF
pins: 1, 2

## 890334027025CS
designator C?, comment 3.3µF  (value not drawn)
WCAP-FTXX Film Capacitor, THT, 31mm x 15.5mm x 29mm, 3.3µF, 310V; Manufacturer Part Number: 890334027025CS; Manufacturer: Wurth Elektronik; Dissipation Factor @1kHz: 0.1%; Insulation Resistance: 3.03GΩ; Rate of Voltage Rise: 130V/µs; Safety Class: X2; Category: Film Capacitors; Match Code: WCAP-FTXX; ComponentLink1Description: Website Link; ComponentLink1URL: https://www.we-online.com/redexpert/article/890334027025CS?ad; ComponentLink2Description: Datasheet Link; ComponentLink2URL: https://www.we-online.com/redexpert/spec/890334027025CS?ad; Mount: Through Hole; Min Operating Temperature: -40°C; Max Operating Temperature: 105°C; Packaging: Bulk; Length: 31mm; Width: 15.5mm; Height: 29mm; Application: Across the mains; Capacitance: 3.3µF; Lead Pitch: 27.5mm; Rated Voltage (AC): 310V
footprint WCAP-FTXX_L31W15.5H29
simulation model 890334027025CS_3.3uF
pins: 1, 2